# Altium integrated library TransistorThyristor_PTH.IntLib: 9 symbols
Pins are listed as number, name and electrical type; pins without a type are passive.

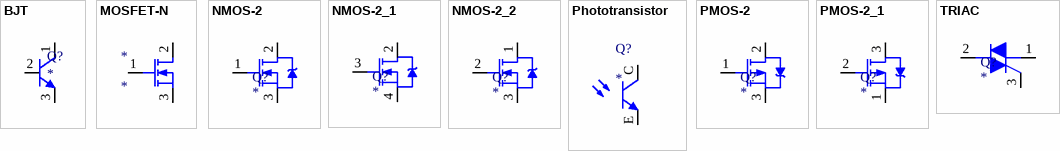
[diagram p0: symbols BJT to TRIAC]

## BJT
designator Q?
footprint TO92-1
pins: 1 C, 2 B, 3 E

## MOSFET-N
designator *
footprint TO220
pins: 1 G, 2 D, 3 S

## NMOS-2
designator Q?
N-Channel Power MOSFET; Populated: Yes; ROHS: Yes; LifeCycle: Checked; Value: *
footprint TO220-3 1
pins: 1 G, 2 D, 3 S

## NMOS-2_1
designator Q?
N-Channel Power MOSFET; Populated: Yes; ROHS: Yes; LifeCycle: Checked; Value: *
footprint DIL04
pins: 1 D, 2 D, 3 G, 4 S

## NMOS-2_2
designator Q?
N-Channel Power MOSFET; Populated: Yes; ROHS: Yes; LifeCycle: Checked; Value: *
footprint TO92-1
pins: 1 D, 2 G, 3 S

## Phototransistor
designator Q?
Value: *
footprint PHOTOTRANSISTOR_5MM PTH_RIGHTANGLE
pins: C, E

## PMOS-2
designator Q?
P-Channel Power MOSFET; Populated: Yes; ROHS: Yes; LifeCycle: Checked; Value: *
footprint TO220-3 1
pins: 1 G, 2 D, 3 S

## PMOS-2_1
designator Q?
P-Channel Power MOSFET; Populated: Yes; ROHS: Yes; LifeCycle: Checked; Value: *
footprint TO92-1
pins: 1 S, 2 G, 3 D

## TRIAC
designator Q?
TRIAC Silicon Biderectional Triode; Populated: Yes; ROHS: Yes; LifeCycle: Checked; Value: *
footprint TO220-3 1
footprint TO220
footprint TO220-3_ISOLATEDTAB
pins: 1 A1, 2 A2, 3 G